# Altium footprint library SDA07H1SBD.PcbLib: 1 footprints
Each footprint in its own frame and in the unit in brackets; x right, y up, seen from the top. Pads: shape width x height; smd on the part's side, far side on the other; paste and mask are expansions set on the pad; w line width, h text height; cw(c..) or ccw(c..) is an arc to the next point about the centre after c.
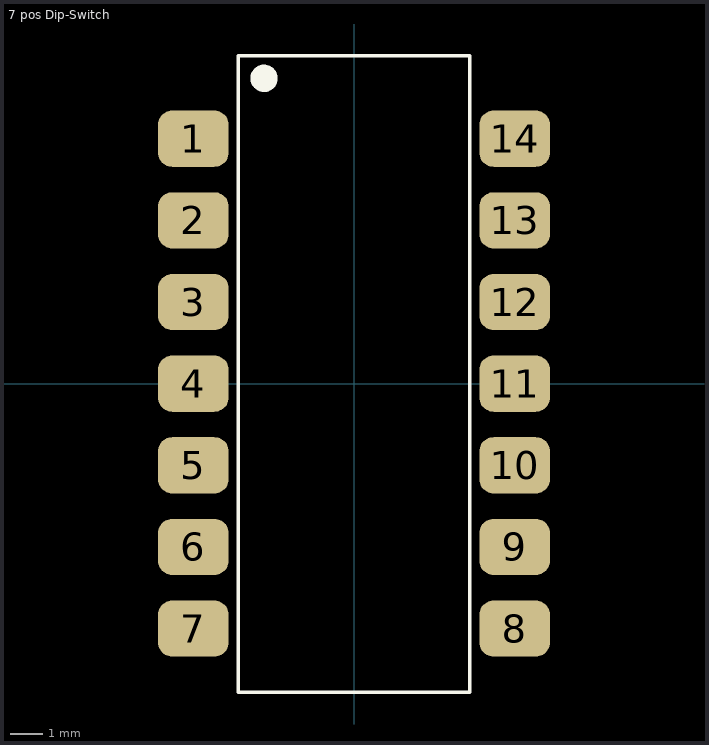
[diagram p0: the footprint, top view; thin cyan lines are the x and y axes]

## 7 pos Dip-Switch [mm]
pads (14):
  rrect50% 2.2x1.75 smd: 1(-5,7.62) 2(-5,5.08) 3(-5,2.54) 4(-5,0) 5(-5,-2.54) 6(-5,-5.08) 7(-5,-7.62) 8(5,-7.62) 9(5,-5.08) 10(5,-2.54) 11(5,0) 12(5,2.54) 13(5,5.08) 14(5,7.62)
Top Overlay:
  circle w0.254: c-2.8,9.5 r0.3
  region: -3.1,9.5 -2.8,9.8 -2.5,9.5 -2.8,9.2
  lines w0.1: -3.6,-9.6 -3,-9.6 3.6,-9.6 3.6,10.2 -3.6,10.2 -3.6,7.8 -3.6,-9.6
3D body "SDA07H1SBD.STEP": height 5.5, standoff 0, extent -4.65,-9.9 4.65,9.861